# Altium schematic symbol library RPSLib_IC_Misc.SchLib: 8 symbols
Pins are listed as number, name and electrical type; pins without a type are passive.

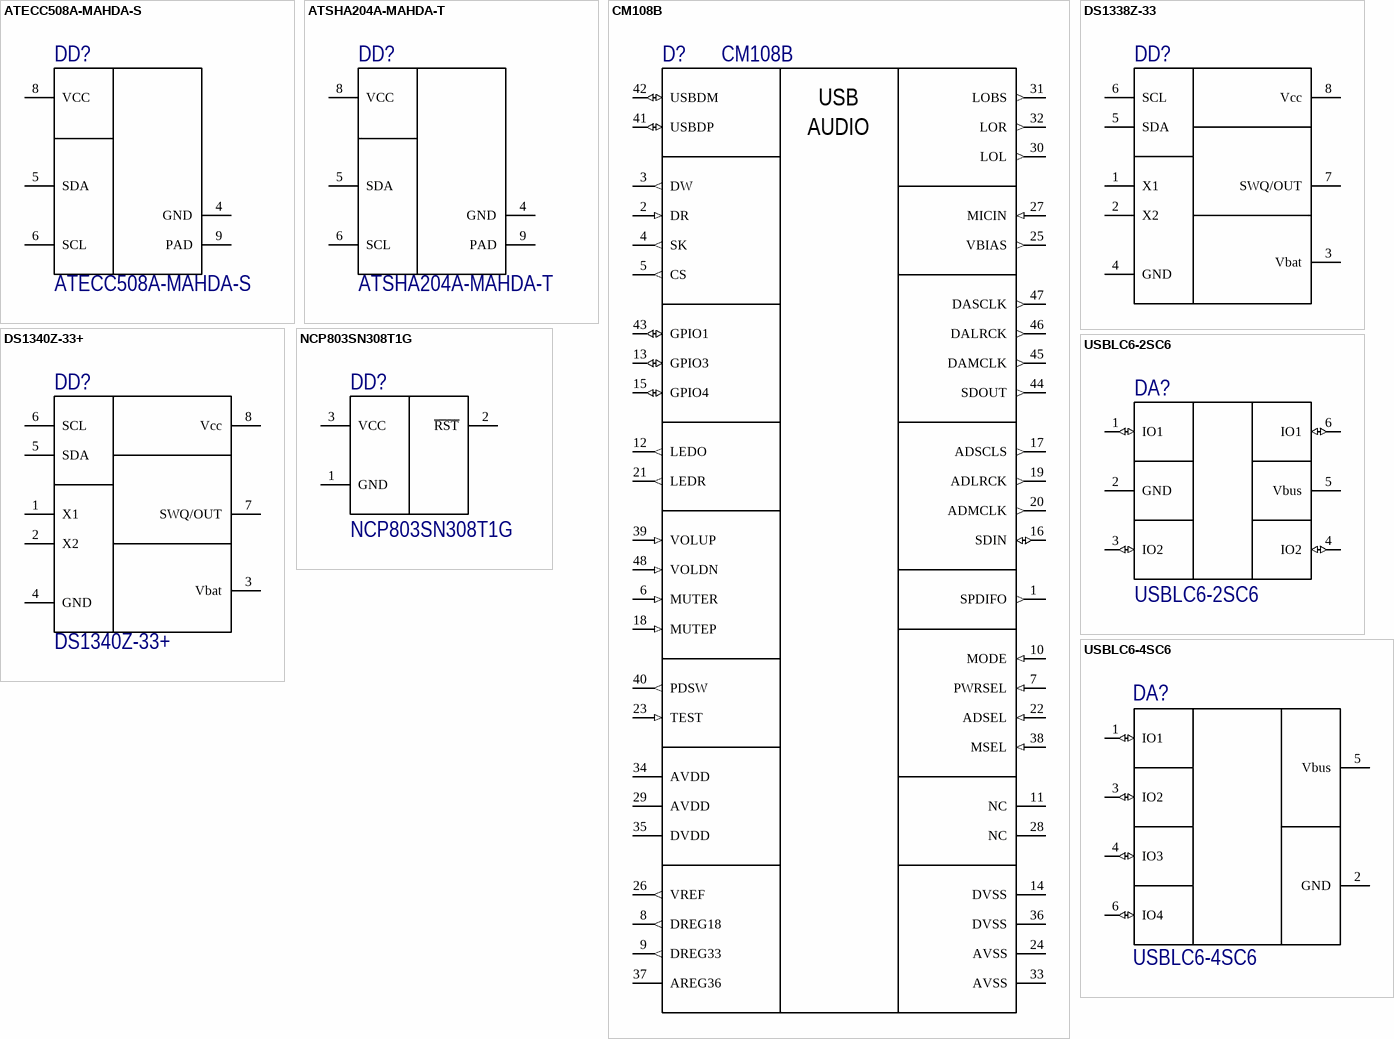
[diagram p0: symbols ATECC508A-MAHDA-S to USBLC6-4SC6]

## ATECC508A-MAHDA-S
designator DD?
CUSTSPEC, ECC 10KB - 8LD UDFN GENERIC TWI, 3K T&R Description CUSTSPEC, ECC 10KB - 8LD UDFN GENERIC TWI, 3K T&R; Manufacturer: Microchip / Atmel; Supplier 1: Digi-Key; Manufacturer Part Number: ATECC508A-MAHDA-S; Stock 1: 31288; Pricing 1: 1=0.73, 25=0.7064 (USD); Mount: Surface Mount; Packaging: Tape and Reel; Lead Free: Lead Free; Supplier Part Number 1: ATECC508A-MAHDA-SCT-ND; РКД Наименование: *
footprint SON50P300X60_HS-9N (SON, 8-Leads, Body 2,00x3,00mm, Pitch 0,50mm, Thermal Pad 1,50x1,30mm, IPC Medium Density)
pins: 4 GND, 5 SDA, 6 SCL, 8 VCC, 9 PAD

## ATSHA204A-MAHDA-T
designator DD?
IC CRYPTO 4.5KB I2C 8UDFN Description IC CRYPTO 4.5KB I2C 8UDFN; Manufacturer: Microchip / Atmel; Interface: I2C,Serial; Access Time: 550ns; Max Frequency: 1MHz; Number of Input Lines: 1; Output Current: 4mA; Output Voltage: 400mV; Max Supply Voltage: 6V; Min Supply Voltage: 2V; Operating Supply Voltage: 5.5V; Supplier 1: Digi-Key; Manufacturer Part Number: ATSHA204A-MAHDA-T; Stock 1: 24073; Pricing 1: 1=0.52, 25=0.4636 (USD); Mount: Surface Mount; Number of Pins: 8; Weight: 0.000335oz; Contact Plating: Gold; Min Operating Temperature: -40°C; Max Operating Temperature: 85°C; Package Quantity: 1; Packaging: Tape and Reel; Density: 4.5Kb; Number of Output Lines: 1; Lead Free: Lead Free; Supplier Part Number 1: ATSHA204A-MAHDA-TCT-ND; РКД Наименование: *
footprint SON50P300X60_HS-9N (SON, 8-Leads, Body 2,00x3,00mm, Pitch 0,50mm, Thermal Pad 1,50x1,30mm, IPC Medium Density)
pins: 4 GND, 5 SDA, 6 SCL, 8 VCC, 9 PAD

## CM108B
designator D?
USB Audio Codec improved on CM108AH with crystal-less design; Manufacturer: Cmedia; Manufacturer Part Number: CM108B
footprint TSQFP50P900X900X160-48N (TSQFP, 48-Leads, Body 7,00x7,00mm, Pitch 0,50mm, IPC Medium Density)
pins: 1 SPDIFO (out), 2 DR (in), 3 DW (out), 4 SK (out), 5 CS (out), 6 MUTER (in), 7 PWRSEL (in), 8 DREG18 (out), 9 DREG33 (out), 10 MODE (in), 11 NC, 12 LEDO (out), 13 GPIO3 (io), 14 DVSS (power), 15 GPIO4 (io), 16 SDIN (io), 17 ADSCLS (out), 18 MUTEP (in), 19 ADLRCK (out), 20 ADMCLK (out), 21 LEDR (out), 22 ADSEL (in), 23 TEST (in), 24 AVSS (power), 25 VBIAS (out), 26 VREF (out), 27 MICIN (in), 28 NC, 29 AVDD (power), 30 LOL (out), 31 LOBS (out), 32 LOR (out), 33 AVSS (power), 34 AVDD (power), 35 DVDD (power), 36 DVSS (power), 37 AREG36 (power), 38 MSEL (in), 39 VOLUP (in), 40 PDSW (out), 41 USBDP (io), 42 USBDM (io), 43 GPIO1 (io), 44 SDOUT (out), 45 DAMCLK (out), 46 DALRCK (out), 47 DASCLK (out), 48 VOLDN (in)
text: USB; AUDIO

## DS1338Z-33
designator DD?  (value not drawn)
I2C RTC with 56 Byte NV RAM; РКД Наименование: LP2985-33DBVR - LDO 3.3 V, 150 mA, SOT-23
footprint SOIC127P600X175-8N (SOIC, 8-Leads, Body 4.90x3.90mm, Pitch 1.27mm, IPC Medium Density)
pins: 1 X1, 2 X2, 3 Vbat, 4 GND, 5 SDA, 6 SCL, 7 SWQ/OUT, 8 Vcc

## DS1340Z-33+
designator DD?
IC RTC CLK/CALENDAR I2C 8-SOIC; Manufacturer: Maxim; Logic Function: Clock; Time Format: HH:MM:SS; Operating Supply Voltage: 3.3V; Max Supply Voltage: 5.5V; Min Supply Voltage: 2.97V; Interface: I2C,Serial,2-Wire; Date Format: YY-MM-DD-dd; Number of Outputs: 1; Frequency: 32.768kHz; Supplier 1: Digi-Key; Supplier Part Number 1: DS1340Z-33+-ND; Manufacturer Part Number: DS1340Z-33+; Stock 1: 1260; Pricing 1: 1=3.82, 10=3.427, 25=3.24, 100=2.808, 300=2.664, 500=2.3904, 1000=2.016, 2500=1.9152, 5000=1.8432 (USD); Mount: Surface Mount; Case/Package: SOIC; Number of Pins: 8; Weight: 0.019048oz; Contact Plating: Tin,Matte; Min Operating Temperature: -40°C; Max Operating Temperature: 85°C; Packaging: Rail/Tube; Package Quantity: 100; Termination: SMD/SMT; Length: 5mm; Height: 1.5mm; Width: 4mm; Radiation Hardening: No; REACH SVHC: Unknown; Lead Free: Lead Free; ComponentLink1URL: http://datasheets.maxim-ic.com/en/ds/DS1340-DS1340C.pdf?src-supplier=Avnet; ComponentLink1Description: http://datasheets.maxim-ic.com/en/ds/DS1340-DS1340C.pdf?src-supplier=Avnet; ComponentLink2URL: http://datasheets.maximintegrated.com/en/ds/DS1340-DS1340C.pdf?src-supplier=Avnet+Europe; ComponentLink2Description: http://datasheets.maximintegrated.com/en/ds/DS1340-DS1340C.pdf?src-supplier=Avnet+Europe; ComponentLink3URL: http://datasheets.maximintegrated.com/en/ds/DS1340-DS1340C.pdf?src-supplier=Digi-Key; ComponentLink3Description: http://datasheets.maximintegrated.com/en/ds/DS1340-DS1340C.pdf?src-supplier=Digi-Key
footprint SOIC127P600X175-8N (SOIC, 8-Leads, Body 4.90x3.90mm, Pitch 1.27mm, IPC Medium Density)
pins: 1 X1, 2 X2, 3 Vbat, 4 GND, 5 SDA, 6 SCL, 7 SWQ/OUT, 8 Vcc

## NCP803SN308T1G
designator DD?
IC MPU RESET MONITOR 3.08V SOT23; Manufacturer: ON Semiconductor; Min Supply Voltage: 1.2V; Max Supply Voltage: 5.5V; Nominal Supply Current: 800nA; Number of Voltages Monitored: 1; Reset: Active Low; Reset Timeout: 140ms; Overvoltage Threshold: 3.11V; Watchdog Timer: No; Min Reset Threshold Voltage: 3.04V; Supplier 1: Digi-Key; Manufacturer Part Number: NCP803SN308T1G; Stock 1: 17057; Pricing 1: 1=0.61, 10=0.534, 100=0.4094, 500=0.32362, 1000=0.2589 (USD); Mount: Surface Mount; Case/Package: SOT-23; Number of Pins: 3; Min Operating Temperature: -40°C; Max Operating Temperature: 105°C; Package Quantity: 3000; Packaging: Tape and Reel; Type: Simple Reset/Power-On Reset; Threshold Voltage: 3.08V; Undervoltage Threshold: 3.08V; Operating Supply Current: 800nA; Number of Elements: 1; Max Reset Threshold Voltage: 3.11V; Length: 2.2mm; Height: 0.9mm; Width: 1.35mm; Radiation Hardening: No; REACH SVHC: No SVHC; Lead Free: Lead Free; Halogen Free: Halogen Free; ComponentLink1URL: http://www.onsemi.cn/pub_link/Collateral/MAX803-D.PDF; ComponentLink1Description: http://www.onsemi.cn/pub_link/Collateral/MAX803-D.PDF; ComponentLink2URL: http://www.onsemi.com/pub/Collateral/MAX803-D.PDF; ComponentLink2Description: http://www.onsemi.com/pub/Collateral/MAX803-D.PDF; ComponentLink3URL: http://www.alliedelec.com/images/products/datasheets/bm/ON_SEMICONDUCTOR/70300500.pdf; ComponentLink3Description: http://www.alliedelec.com/images/products/datasheets/bm/ON_SEMICONDUCTOR/70300500.pdf; ComponentLink4URL: http://datasheet.iiic.cc/on_semiconductor/NCP803SN308T1G.pdf; ComponentLink4Description: http://datasheet.iiic.cc/on_semiconductor/NCP803SN308T1G.pdf; Supplier Part Number 1: NCP803SN308T1GOSCT-ND
footprint SOT95P232X100-3N (SOT23, 3-Leads, Body 2.92x2.32mm, Pitch 0.95mm, IPC Medium Density)
pins: 1 GND (power), 2 ~{RST}, 3 VCC (power)

## USBLC6-2SC6
designator DA?
TVS DIODE 5.25VWM 17VC SOT23-6; Manufacturer: STMicroelectronics; Direction: Bidirectional,Unidirectional; Capacitance: 3.5pF; Clamping Voltage: 17V; Operating Supply Voltage: 1.1V; Number of Channels: 2; Breakdown Voltage: 6V; Reverse Standoff Voltage: 5.25V; Power Line Protection: Yes; Test Current: 1mA; Max Reverse Leakage Current: 150nA; Peak Pulse Current: 5A; Element Configuration: Dual; Data Rate: 480Mbps; Number of Elements: 1; Working Voltage: 5V; PartNo: USBLC6-2SC6; Supplier 1: Digi-Key; Manufacturer Part Number: USBLC6-2SC6; Stock 1: 165611; Pricing 1: 1=0.49, 10=0.419, 100=0.3131, 500=0.24602, 1000=0.1901 (USD); Mount: Surface Mount; Case/Package: SOT-23; Number of Pins: 6; Contact Plating: Matte,Tin; Min Operating Temperature: -40°C; Max Operating Temperature: 125°C; Packaging: Tape and Reel; Package Quantity: 3000; Termination: SMD/SMT; Number of Bidirectional Channels: 2; Min Breakdown Voltage: 6V; ESD Protection: Yes; Leakage Current: 150nA; Reverse Breakdown Voltage: 6V; Polarity: Bidirectional,Unidirectional; Max Breakdown Voltage: 6V; Length: 3.05mm; Height: 1.3mm; Width: 1.75mm; Depth: 1.75mm; Radiation Hardening: No; REACH SVHC: No SVHC; Lead Free: Lead Free; ComponentLink1URL: http://www.farnell.com/datasheets/1690354.pdf; ComponentLink1Description: http://www.farnell.com/datasheets/1690354.pdf; ComponentLink2URL: http://www.st.com/content/ccc/resource/technical/document/datasheet/06/1d/48/9c/6c/20/4a/b2/CD00050750.pdf/files/CD00050750.pdf/jcr:content/translations/en.CD00050750.pdf; ComponentLink2Description: http://www.st.com/content/ccc/resource/technical/document/datasheet/06/1d/48/9c/6c/20/4a/b2/CD00050750.pdf/files/CD00050750.pdf/jcr:content/translations/en.CD00050750.pdf; ComponentLink3URL: http://www.st.com/web/en/resource/technical/document/datasheet/CD00050750.pdf; ComponentLink3Description: http://www.st.com/web/en/resource/technical/document/datasheet/CD00050750.pdf; ComponentLink4URL: http://datasheet.iiic.cc/stmicroelectronics/USBLC6-2SC6.pdf; ComponentLink4Description: http://datasheet.iiic.cc/stmicroelectronics/USBLC6-2SC6.pdf; ComponentLink5URL: http://www.produktinfo.conrad.com/datenblaetter/1100000-1199999/001184109-da-01-en-IC_ESD_PROTECTI_USBLC6_2SC6_SOT_23_6_STM.pdf; ComponentLink5Description: http://www.produktinfo.conrad.com/datenblaetter/1100000-1199999/001184109-da-01-en-IC_ESD_PROTECTI_USBLC6_2SC6_SOT_23_6_STM.pdf; Supplier Part Number 1: 497-5235-1-ND; РКД Наименование: *
footprint SOT95P280X145-6N (SOT23, 6-Leads, Body 2.90x2.80mm, Pitch 0.95mm, IPC Medium Density)
pins: 1 IO1 (io), 2 GND (power), 3 IO2 (io), 4 IO2 (io), 5 Vbus (power), 6 IO1 (io)

## USBLC6-4SC6
designator DA?
TVS DIODE 5.25VWM 17VC SOT23-6; Manufacturer: STMicroelectronics; Capacitance: 4pF; Direction: Unidirectional; Number of Bidirectional Channels: 4; Reverse Standoff Voltage: 5V; Min Breakdown Voltage: 6V; Clamping Voltage: 17V; Power Line Protection: Yes; Leakage Current: 150nA; Peak Pulse Current: 5A; Number of Elements: 1; Operating Supply Voltage: 860mV; Polarity: Unidirectional,Bidirectional; Test Current: 1mA; Max Breakdown Voltage: 10V; Max Reverse Leakage Current: 2uA; Supplier 1: Digi-Key; Manufacturer Part Number: USBLC6-4SC6; RoHS: Yes; Category: TVS Diodes; Stock 1: 87175; Pricing 1: 1=0,69000, 10=0,60800, 100=0,46640, 500=0,36872, 1000=0,29498 (USD); Mount: Surface Mount; Case/Package: SOT-23; Number of Pins: 6; Weight: 0.01lb; Contact Plating: Tin,Matte; Min Operating Temperature: -40°C; Max Operating Temperature: 125°C; Package Quantity: 3000; Packaging: Tape and Reel; Series: USB; Reverse Breakdown Voltage: 6V; Number of Channels: 4; Breakdown Voltage: 6V; Termination: SMD/SMT; Working Voltage: 5V; ESD Protection: Yes; Voltage Rating (DC): 5V; Clamping Voltage-Max: 17V; Length: 3mm; Width: 1.75mm; Height: 1.3mm; Depth: 1.75mm; Radiation Hardening: No; Lead Free: Lead Free; RoHS Compliant: Yes; REACH SVHC: No SVHC; ComponentLink1URL: https://datasheet.ciiva.com/14186/usblc6-4-st-eng-tds-14186570.pdf?src-supplier=Distrelec; ComponentLink1Description: https://datasheet.ciiva.com/14186/usblc6-4-st-eng-tds-14186570.pdf?src-supplier=Distrelec; ComponentLink2URL: https://datasheet.ciiva.com/27052/1493951-27052291.pdf?src-supplier=Jameco; ComponentLink2Description: https://datasheet.ciiva.com/27052/1493951-27052291.pdf?src-supplier=Jameco; ComponentLink3URL: https://datasheet.ciiva.com/1220/48344-1220005.pdf?src-supplier=Newark; ComponentLink3Description: https://datasheet.ciiva.com/1220/48344-1220005.pdf?src-supplier=Newark; ComponentLink4URL: https://datasheet.ciiva.com/4507/cd00047494-112581-4507757.pdf?src-supplier=Mouser; ComponentLink4Description: https://datasheet.ciiva.com/4507/cd00047494-112581-4507757.pdf?src-supplier=Mouser; ComponentLink5URL: https://datasheet.ciiva.com/16206/cd00047494-16206119.pdf?src-supplier=Future+Electronics; ComponentLink5Description: https://datasheet.ciiva.com/16206/cd00047494-16206119.pdf?src-supplier=Future+Electronics; ComponentLink6URL: https://datasheet.ciiva.com/15143/getdatasheetpartid-88767-15143364.pdf?src-supplier=Verical; ComponentLink6Description: https://datasheet.ciiva.com/15143/getdatasheetpartid-88767-15143364.pdf?src-supplier=Verical; ComponentLink7URL: https://datasheet.ciiva.com/22685/1498406-22685833.pdf?src-supplier=Element14; ComponentLink7Description: https://datasheet.ciiva.com/22685/1498406-22685833.pdf?src-supplier=Element14; ComponentLink8URL: https://datasheet.ciiva.com/22692/1498406-22692454.pdf?src-supplier=Element14; ComponentLink8Description: https://datasheet.ciiva.com/22692/1498406-22692454.pdf?src-supplier=Element14; Supplier Part Number 1: 497-4492-1-ND
footprint SOT95P280X145-6N (SOT23, 6-Leads, Body 2.90x2.80mm, Pitch 0.95mm, IPC Medium Density)
pins: 1 IO1 (io), 2 GND (power), 3 IO2 (io), 4 IO3 (io), 5 Vbus (power), 6 IO4 (io)